# Altium schematic symbol library M24C.SchLib: 1 symbol
Pins are listed as number, name and electrical type; pins without a type are passive.

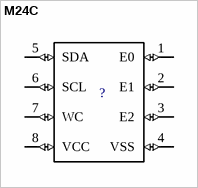
[diagram p0: symbol M24C]

## M24C
designator ?  (value not drawn)
Value: *
footprint SO8
footprint TSSOP65P640X120-8N (TSSOP, 8 Leads, Body 3.1x4.5mm (max), Pitch 0.65mm, IPC Medium Density)
pins: 1 E0 (io), 2 E1 (io), 3 E2 (io), 4 VSS (io), 5 SDA (io), 6 SCL (io), 7 WC (io), 8 VCC (io)